# EAGLE library part OG-ENCODER_EC12E_SW (library braids_v50)
ALPS rotary Encoder EC12E series with switch
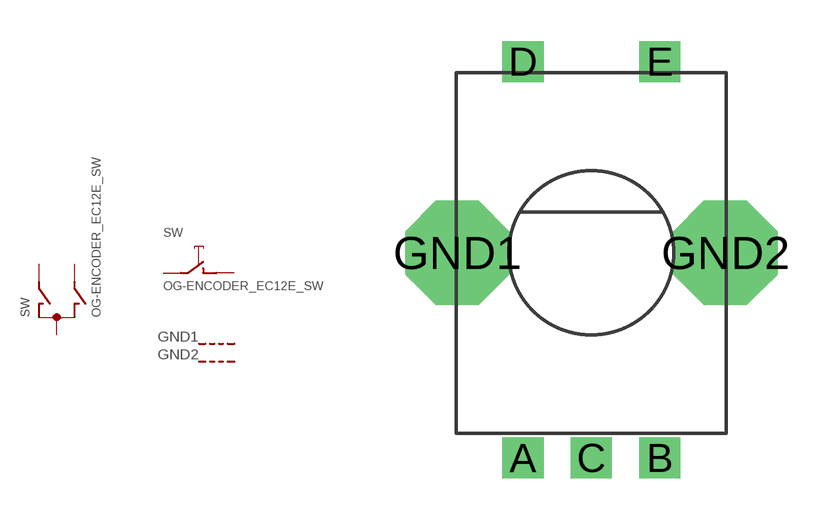
[diagram p7: symbol with the pads of OG-ENCODER_ALPS_EC12E_SW; footprint OG-ENCODER_ALPS_EC12E_SW]

Designator prefix SW; gates G$1=OG-ENCODER_ENCODER G$2=OG-ENCODER_TASTER G$3=OG-ENCODER_GEHAEUSEANSCHLUSS G$4=OG-ENCODER_GEHAEUSEANSCHLUSS

## OG-ENCODER_EC12E_SW  [OG-ENCODER_ALPS_EC12E_SW]
A  G$1:A  pas
B  G$1:B  pas
C  G$1:C  pas
D  G$2:1  pas
E  G$2:2  pas
GND1  G$3:G  pas
GND2  G$4:G  pas

## Footprint OG-ENCODER_ALPS_EC12E_SW (pad centres in mm)
ALPS rotary encoder EC12E series with push-on switch
drill 1 square: A -2.5,-7.5; B 2.5,-7.5; C 0,-7.5; D -2.5,7; E 2.5,7
drill 2.8 octagon: GND1 -4.9,0; GND2 4.9,0